# Altium footprint library WL-SMRW.PcbLib: 8 footprints
Each footprint in its own frame and in the unit in brackets; x right, y up, seen from the top. Pads: shape width x height; smd on the part's side, far side on the other; paste and mask are expansions set on the pad; w line width, h text height; cw(c..) or ccw(c..) is an arc to the next point about the centre after c.
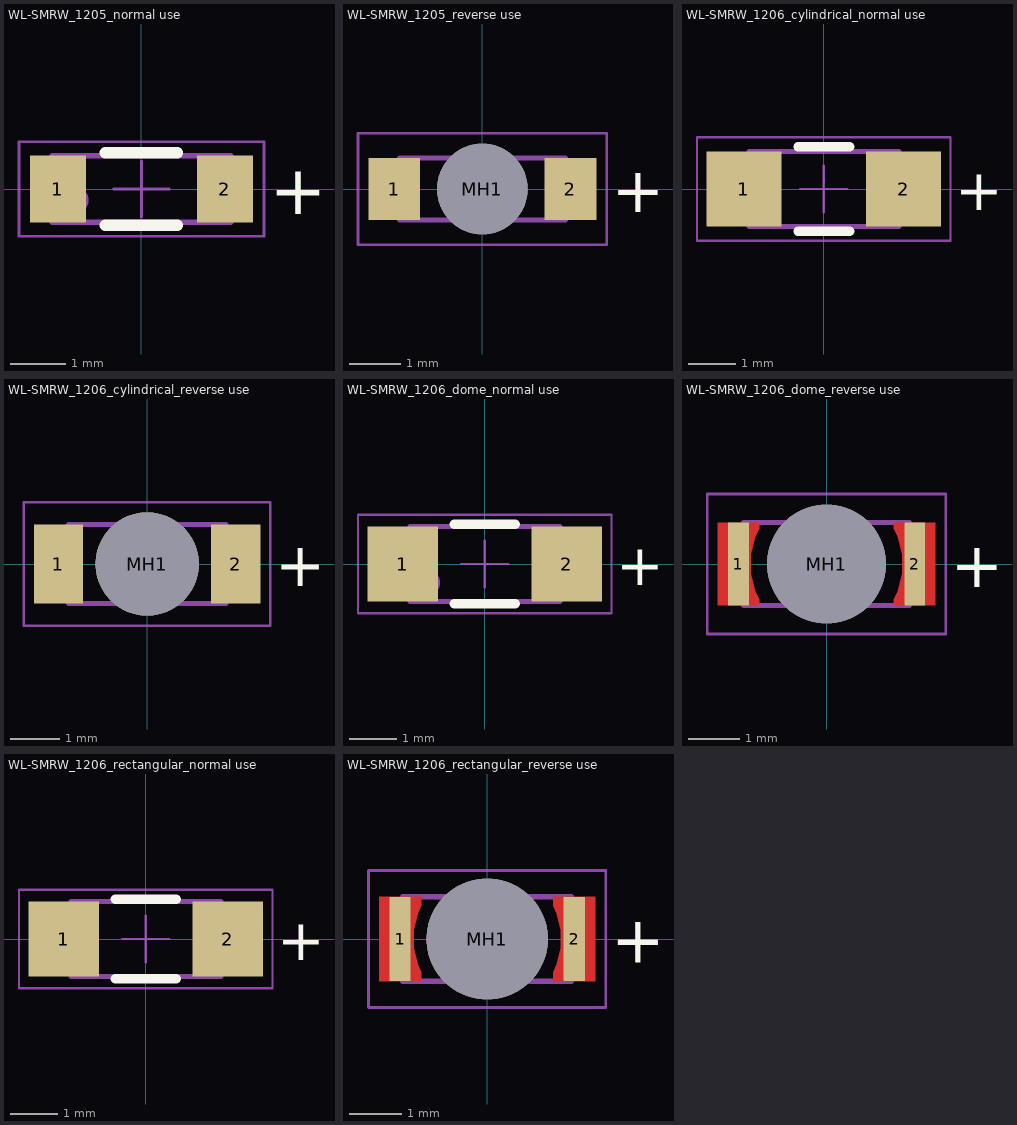
[diagram p0: the footprints below, top view; thin cyan lines are the x and y axes]

## WL-SMRW_1205_normal use [mm] "SMD Mono-color Reverse mount Waterclear, body 3.2x1.2mm"
height 1.2
pads (2):
  rect 1x1.2 smd: 1(-1.5,0) 2(1.5,0)
Top Overlay:
  lines w0.2: -0.65,-0.65 0.65,-0.65 ; -0.65,0.65 0.65,0.65
  text "+" at 2.3,-0.45 h0.89
Top Designator:
  text ".Designator" at -4.998,-0.333 h1
Top Component Outline:
  circle w0.1: c-1.2,-0.2 r0.2
  lines w0.1: -1.6,-0.6 -1.6,0.6 1.6,0.6 1.6,-0.6 -1.6,-0.6
Top Courtyard:
  lines w0.05: -0.5,0 0.5,0 ; 0,-0.5 0,0.5 ; -2.2,-0.85 2.2,-0.85 2.2,0.85 -2.2,0.85 -2.2,-0.85
3D body "WE-SMRW_1205_rectangular.stp": height 1.1, standoff 0, extent -1.6,-0.6 1.6,0.6

## WL-SMRW_1205_reverse use [mm] "SMD Mono-color Reverse mount Waterclear, body 3.2x1.2mm"
height 0.28
pads (3):
  rect 1x1.2 smd: 1(-1.7,0) 2(1.7,0)
  round 1.75 hole 1.75 unplated: MH1(0,0)
Top Overlay:
  text "+" at 2.5,-0.45 h0.89
Top Designator:
  text ".Designator" at -4.998,-0.333 h1
Top Component Outline:
  region: 0.35,0.65 0.35,-0.65 0.05,-0.65 0.05,-0.15 -0.25,-0.15 -0.25,0.15 0.05,0.15 0.05,0.65
  lines w0.1: -1.6,-0.6 1.6,-0.6 1.6,0.6 -1.6,0.6 -1.6,-0.6
Top Courtyard:
  lines w0.05: -0.5,0 0.5,0 ; 0,-0.5 0,0.5 ; -2.4,-1.075 2.4,-1.075 2.4,1.075 -2.4,1.075 -2.4,-1.075
3D body "WE-SMRW_1205_rectangular.stp": height 0.28, standoff -0.82, extent -1.6,-0.6 1.6,0.6

## WL-SMRW_1206_cylindrical_normal use [mm] "SMD Mono-color Reverse mount LED, body 3.2x1.2mm"
height 1.4
pads (2):
  rect 1.6x1.6 smd: 1(-1.7,0) 2(1.7,0)
Top Overlay:
  lines w0.2: -0.55,-0.9 0.55,-0.9 ; -0.55,0.9 0.55,0.9
  text "+" at 2.8,-0.45 h0.89
Top Designator:
  text ".Designator" at -4.998,-0.333 h1
Top Component Outline:
  rectangle: -1.35,-0.25 -1,0.25
  lines w0.1: -1.6,-0.8 1.6,-0.8 1.6,0.8 -1.6,0.8 -1.6,-0.8
Top Courtyard:
  lines w0.05: -0.5,0 0.5,0 ; 0,-0.5 0,0.5 ; -2.7,-1.1 -2.7,1.1 2.7,1.1 2.7,-1.1 -2.7,-1.1
3D body "WL-SMRW_1206_cylindrical.stp": height 1.2, standoff 0, extent -1.6,-0.8 1.6,0.8

## WL-SMRW_1206_cylindrical_reverse use [mm] "SMD Mono-color Reverse mount LED, body 3.2x1.2mm"
height 0.4
pads (3):
  rect 1x1.6 smd: 1(-1.8,0) 2(1.8,0)
  round 2.1 hole 2.1 unplated: MH1(0,0)
Top Overlay:
  text "+" at 2.6,-0.45 h0.89
Top Designator:
  text ".Designator" at -4.998,-0.333 h1
Top Component Outline:
  region: 0.8,0.55 0.8,-0.5 -0.15,-0.5 -0.15,-0.2 -0.75,-0.2 -0.75,0.2 -0.15,0.2 -0.15,0.55
  lines w0.1: -1.6,-0.8 1.6,-0.8 1.6,0.8 -1.6,0.8 -1.6,-0.8
Top Courtyard:
  lines w0.05: -0.5,0 0.5,0 ; 0,-0.5 0,0.5 ; -2.5,-1.25 -2.5,1.25 2.5,1.25 2.5,-1.25 -2.5,-1.25
3D body "WL-SMRW_1206_cylindrical.stp": height 0.4, standoff -0.8, extent -1.6,-0.8 1.6,0.8

## WL-SMRW_1206_dome_normal use [mm] "SMD Mono-color Reverse mount LED, body 3.2x1.2mm"
height 1.85
pads (2):
  rect 1.5x1.6 smd: 1(-1.75,0) 2(1.75,0)
Top Overlay:
  lines w0.2: -0.65,-0.85 0.65,-0.85 ; -0.65,0.85 0.65,0.85
  text "+" at 2.8,-0.45 h0.89
Top Designator:
  text ".Designator" at -4.998,-0.333 h1
Top Component Outline:
  circle w0.1: c-1.2,-0.4 r0.2
  lines w0.1: -1.6,-0.8 -1.6,0.8 1.6,0.8 1.6,-0.8 -1.6,-0.8
Top Courtyard:
  lines w0.05: -0.5,0 0.5,0 ; 0,-0.5 0,0.5 ; -2.7,-1.05 2.7,-1.05 2.7,1.05 -2.7,1.05 -2.7,-1.05
3D body "156120BS82500.stp": height 1.85, standoff 0, extent -1.6,-0.8 1.6,0.8

## WL-SMRW_1206_dome_reverse use [mm] "SMD Mono-color Reverse mount LED, body 3.2x1.2mm"
height 0.3
pads (3):
  rect 0.4x1.6 smd paste-403.566 mask-2539.97: 1(-1.7,0) 2(1.7,0)
  round 2.3 hole 2.3 unplated: MH1(0,0)
Top Layer:
  region: 2.1,-0.8 2.1,0.8 1.3,0.8 1.3,0.687 1.373,0.524 1.459,0.178 1.459,-0.178 1.373,-0.524 1.3,-0.687 1.3,-0.8
  region: -2.1,-0.8 -2.1,0.8 -1.3,0.8 -1.3,0.687 -1.373,0.524 -1.459,0.178 -1.459,-0.178 -1.373,-0.524 -1.3,-0.687 -1.3,-0.8
Top Overlay:
  text "+" at 2.4,-0.45 h0.89
Top Designator:
  text ".Designator" at -4.998,-0.333 h1
Top Component Outline:
  region: 0.8,0.8 0.8,-0.8 0.4,-0.8 0.4,-0.15 -0.8,-0.15 -0.8,0.15 0.4,0.15 0.4,0.8
  lines w0.1: -1.6,-0.8 1.6,-0.8 1.6,0.8 -1.6,0.8 -1.6,-0.8
Top Courtyard:
  lines w0.05: -0.5,0 0.5,0 ; 0,-0.5 0,0.5 ; -2.3,-1.35 -2.3,1.35 2.3,1.35 2.3,-1.35 -2.3,-1.35
3D body "156120BS82500.stp": height 0.3, standoff -1.55, extent -1.6,-0.8 1.6,0.8

## WL-SMRW_1206_rectangular_normal use [mm] "SMD Mono-color Reverse mount LED, body 3.2x1.2mm"
height 1.3
pads (2):
  rect 1.5x1.6 smd: 1(-1.75,0) 2(1.75,0)
Top Overlay:
  lines w0.2: -0.65,-0.85 0.65,-0.85 ; -0.65,0.85 0.65,0.85
  text "+" at 2.8,-0.45 h0.89
Top Designator:
  text ".Designator" at -4.998,-0.333 h1
Top Component Outline:
  lines w0.1: -1.6,-0.8 -1.6,0.8 1.6,0.8 1.6,-0.8 -1.6,-0.8
Top Courtyard:
  lines w0.05: -0.5,0 0.5,0 ; 0,-0.5 0,0.5 ; -2.7,-1.05 2.7,-1.05 2.7,1.05 -2.7,1.05 -2.7,-1.05
3D body "WL-SMRW_1206_rectangular.stp": height 1.2, standoff 0, extent -1.6,-0.8 1.6,0.8

## WL-SMRW_1206_rectangular_reverse use [mm] "SMD Mono-color Reverse mount LED, body 3.2x1.2mm"
height 0.4
pads (3):
  rect 0.4x1.6 smd paste-403.566 mask-403.566: 1(-1.65,0) 2(1.65,0)
  round 2.3 hole 2.3 unplated: MH1(0,0)
Top Layer:
  region: -2.05,-0.8 -2.05,0.8 -1.25,0.8 -1.25,0.631 -1.315,0.481 -1.39,0.163 -1.39,-0.163 -1.315,-0.481 -1.25,-0.631 -1.25,-0.8
  region: 2.05,-0.8 2.05,0.8 1.25,0.8 1.25,0.631 1.315,0.481 1.39,0.163 1.39,-0.163 1.315,-0.481 1.25,-0.631 1.25,-0.8
Top Overlay:
  text "+" at 2.35,-0.45 h0.89
Top Designator:
  text ".Designator" at -4.998,-0.333 h1
Top Component Outline:
  region: 0.85,0.8 0.85,-0.8 -0.7,0
  lines w0.1: -1.6,-0.8 1.6,-0.8 1.6,0.8 -1.6,0.8 -1.6,-0.8
Top Courtyard:
  lines w0.05: -0.5,0 0.5,0 ; 0,-0.5 0,0.5 ; -2.25,-1.3 2.25,-1.3 2.25,1.3 -2.25,1.3 -2.25,-1.3
3D body "WL-SMRW_1206_rectangular.stp": height 0.4, standoff -0.8, extent -1.6,-0.8 1.6,0.8